# Altium integrated library Capacitor - Aluminium TH.IntLib: 4591 symbols (part 46 of 68)
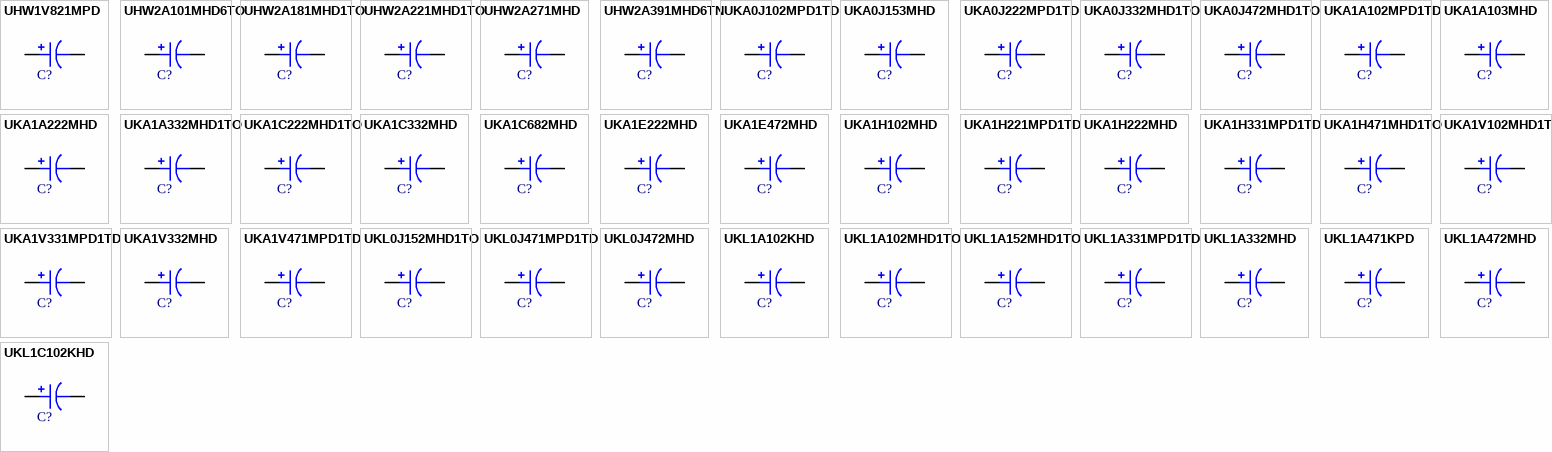
[diagram p159: symbols UHW1V821MPD to UKL1C102KHD]

## UKA1A103MHD
designator C?, comment 10000uF  (value not drawn)
CAP ALUM 10000UF 20% 10V RADIAL; Part Number: UKA1A103MHD; Manufacturer: Nichicon; TemperatureRange: -55C ~ 105C; Type: Polar; Ripple Current: 1.89A @ 120Hz; Value: 10000uF; PartId: 27427; Supplier 1: Digi-Key; Supplier Part Number 1: 493-4599-ND; ComponentLink1Description: Datasheet; ComponentLink1URL: http://nichicon-us.com/english/products/pdfs/e-uka.pdf; ComponentLink2Description: Digi-Key Listing; ComponentLink2URL: https://www.digikey.com/product-detail/en/nichicon/UKA1A103MHD/493-4599-ND/2786974; Tolerance: 20%; Voltage: 10V; Price: 2.86; Device Package: Radial, Can, 16mm
footprint CAP AL TH D16 L7.5 H37
pins: 1, 2

## UKA1A222MHD
designator C?, comment 2200uF  (value not drawn)
CAP ALUM 2200UF 20% 10V RADIAL; Part Number: UKA1A222MHD; Manufacturer: Nichicon; TemperatureRange: -55C ~ 105C; Type: Polar; Ripple Current: 810mA @ 120Hz; Value: 2200uF; PartId: 23036; Supplier 1: Digi-Key; Supplier Part Number 1: 493-4601-ND; ComponentLink1Description: Datasheet; ComponentLink1URL: http://nichicon-us.com/english/products/pdfs/e-uka.pdf; ComponentLink2Description: Digi-Key Listing; ComponentLink2URL: https://www.digikey.com/product-detail/en/nichicon/UKA1A222MHD/493-4601-ND/2786976; Tolerance: 20%; Voltage: 10V; Price: 0; Device Package: Radial, Can, 12.5mm
footprint CAP AL TH D12.5 L5 H21.5
pins: 1, 2

## UKA1A332MHD1TO
designator C?, comment 3300uF  (value not drawn)
CAP ALUM 3300UF 20% 10V RADIAL; Part Number: UKA1A332MHD1TO; Manufacturer: Nichicon; TemperatureRange: -55C ~ 105C; Type: Polar; Ripple Current: 1.05A @ 120Hz; Value: 3300uF; PartId: 23644; Supplier 1: Digi-Key; Supplier Part Number 1: 493-4635-3-ND; ComponentLink1Description: Datasheet; ComponentLink1URL: http://nichicon-us.com/english/products/pdfs/e-uka.pdf; ComponentLink2Description: Digi-Key Listing; ComponentLink2URL: https://www.digikey.com/product-detail/en/nichicon/UKA1A332MHD1TO/493-4635-3-ND/2787010; Tolerance: 20%; Voltage: 10V; Price: 0.6925; Device Package: Radial, Can, 12.5mm
footprint CAP AL TH D12.5 L5 H26.5
pins: 1, 2

## UKA1C222MHD1TO
designator C?, comment 2200uF  (value not drawn)
CAP ALUM 2200UF 20% 16V RADIAL; Part Number: UKA1C222MHD1TO; Manufacturer: Nichicon; TemperatureRange: -55C ~ 105C; Type: Polar; Ripple Current: 920mA @ 120Hz; Value: 2200uF; PartId: 23051; Supplier 1: Digi-Key; Supplier Part Number 1: 493-4642-1-ND; ComponentLink1Description: Datasheet; ComponentLink1URL: http://nichicon-us.com/english/products/pdfs/e-uka.pdf; ComponentLink2Description: Digi-Key Listing; ComponentLink2URL: https://www.digikey.com/product-detail/en/nichicon/UKA1C222MHD1TO/493-4642-1-ND/2787069; Tolerance: 20%; Voltage: 16V; Price: 0; Device Package: Radial, Can, 12.5mm
footprint CAP AL TH D12.5 L5 H21.5
pins: 1, 2

## UKA1C332MHD
designator C?, comment 3300uF  (value not drawn)
CAP ALUM 3300UF 20% 16V RADIAL; Part Number: UKA1C332MHD; Manufacturer: Nichicon; TemperatureRange: -55C ~ 105C; Type: Polar; Ripple Current: 1.27A @ 120Hz; Value: 3300uF; PartId: 24393; Supplier 1: Digi-Key; Supplier Part Number 1: 493-4605-ND; ComponentLink1Description: Datasheet; ComponentLink1URL: http://nichicon-us.com/english/products/pdfs/e-uka.pdf; ComponentLink2Description: Digi-Key Listing; ComponentLink2URL: https://www.digikey.com/product-detail/en/nichicon/UKA1C332MHD/493-4605-ND/2786980; Tolerance: 20%; Voltage: 16V; Price: 1.81; Device Package: Radial, Can, 12.5mm
footprint CAP AL TH D12.5 L5 H35.5
pins: 1, 2

## UKA1C682MHD
designator C?, comment 6800uF  (value not drawn)
CAP ALUM 6800UF 20% 16V RADIAL; Part Number: UKA1C682MHD; Manufacturer: Nichicon; TemperatureRange: -55C ~ 105C; Type: Polar; Ripple Current: 1.78A @ 120Hz; Value: 6800uF; PartId: 27253; Supplier 1: Digi-Key; Supplier Part Number 1: 493-4607-ND; ComponentLink1Description: Datasheet; ComponentLink1URL: http://nichicon-us.com/english/products/pdfs/e-uka.pdf; ComponentLink2Description: Digi-Key Listing; ComponentLink2URL: https://www.digikey.com/product-detail/en/nichicon/UKA1C682MHD/493-4607-ND/2786982; Tolerance: 20%; Voltage: 16V; Price: 2.68; Device Package: Radial, Can, 16mm
footprint CAP AL TH D16 L7.5 H33.5
pins: 1, 2

## UKA1E222MHD
designator C?, comment 2200uF  (value not drawn)
CAP ALUM 2200UF 20% 25V RADIAL; Part Number: UKA1E222MHD; Manufacturer: Nichicon; TemperatureRange: -55C ~ 105C; Type: Polar; Ripple Current: 1.2A @ 120Hz; Value: 2200uF; PartId: 24392; Supplier 1: Digi-Key; Supplier Part Number 1: 493-4608-ND; ComponentLink1Description: Datasheet; ComponentLink1URL: http://nichicon-us.com/english/products/pdfs/e-uka.pdf; ComponentLink2Description: Digi-Key Listing; ComponentLink2URL: https://www.digikey.com/product-detail/en/nichicon/UKA1E222MHD/493-4608-ND/2786983; Tolerance: 20%; Voltage: 25V; Price: 1.81; Device Package: Radial, Can, 12.5mm
footprint CAP AL TH D12.5 L5 H35.5
pins: 1, 2

## UKA1E472MHD
designator C?, comment 4700uF  (value not drawn)
CAP ALUM 4700UF 20% 25V RADIAL; Part Number: UKA1E472MHD; Manufacturer: Nichicon; TemperatureRange: -55C ~ 105C; Type: Polar; Ripple Current: 1.71A @ 120Hz; Value: 4700uF; PartId: 27215; Supplier 1: Digi-Key; Supplier Part Number 1: 493-4610-ND; ComponentLink1Description: Datasheet; ComponentLink1URL: http://nichicon-us.com/english/products/pdfs/e-uka.pdf; ComponentLink2Description: Digi-Key Listing; ComponentLink2URL: https://www.digikey.com/product-detail/en/nichicon/UKA1E472MHD/493-4610-ND/2786985; Tolerance: 20%; Voltage: 25V; Price: 2.3; Device Package: Radial, Can, 16mm
footprint CAP AL TH D16 L7.5 H33.5
pins: 1, 2

## UKA1H102MHD
designator C?, comment 1000uF  (value not drawn)
CAP ALUM 1000UF 20% 50V RADIAL; Part Number: UKA1H102MHD; Manufacturer: Nichicon; TemperatureRange: -55C ~ 105C; Type: Polar; Ripple Current: 1.04A @ 120Hz; Value: 1000uF; PartId: 24394; Supplier 1: Digi-Key; Supplier Part Number 1: 493-4612-ND; ComponentLink1Description: Datasheet; ComponentLink1URL: http://nichicon-us.com/english/products/pdfs/e-uka.pdf; ComponentLink2Description: Digi-Key Listing; ComponentLink2URL: https://www.digikey.com/product-detail/en/nichicon/UKA1H102MHD/493-4612-ND/2786987; Tolerance: 20%; Voltage: 50V; Price: 1.81; Device Package: Radial, Can, 12.5mm
footprint CAP AL TH D12.5 L5 H35.5
pins: 1, 2

## UKA1H221MPD1TD
designator C?, comment 220uF  (value not drawn)
CAP ALUM 220UF 20% 50V RADIAL; Part Number: UKA1H221MPD1TD; Manufacturer: Nichicon; TemperatureRange: -55C ~ 105C; Type: Polar; Ripple Current: 300mA @ 120Hz; Value: 220uF; PartId: 24688; Supplier 1: Digi-Key; Supplier Part Number 1: 493-4657-3-ND; ComponentLink1Description: Datasheet; ComponentLink1URL: http://nichicon-us.com/english/products/pdfs/e-uka.pdf; ComponentLink2Description: Digi-Key Listing; ComponentLink2URL: https://www.digikey.com/product-detail/en/nichicon/UKA1H221MPD1TD/493-4657-3-ND/2787032; Tolerance: 20%; Voltage: 50V; Price: 0.3447; Device Package: Radial, Can, 10mm
footprint CAP AL TH D10 L5 H14.5
pins: 1, 2

## UKA1H222MHD
designator C?, comment 2200uF  (value not drawn)
CAP ALUM 2200UF 20% 50V RADIAL; Part Number: UKA1H222MHD; Manufacturer: Nichicon; TemperatureRange: -55C ~ 105C; Type: Polar; Ripple Current: 1.47A @ 120Hz; Value: 2200uF; PartId: 27423; Supplier 1: Digi-Key; Supplier Part Number 1: 493-4613-ND; ComponentLink1Description: Datasheet; ComponentLink1URL: http://nichicon-us.com/english/products/pdfs/e-uka.pdf; ComponentLink2Description: Digi-Key Listing; ComponentLink2URL: https://www.digikey.com/product-detail/en/nichicon/UKA1H222MHD/493-4613-ND/2786988; Tolerance: 20%; Voltage: 50V; Price: 2.75; Device Package: Radial, Can, 16mm
footprint CAP AL TH D16 L7.5 H37
pins: 1, 2

## UKA1H331MPD1TD
designator C?, comment 330uF  (value not drawn)
CAP ALUM 330UF 20% 50V RADIAL; Part Number: UKA1H331MPD1TD; Manufacturer: Nichicon; TemperatureRange: -55C ~ 105C; Type: Polar; Ripple Current: 410mA @ 120Hz; Value: 330uF; PartId: 25169; Supplier 1: Digi-Key; Supplier Part Number 1: 493-4659-3-ND; ComponentLink1Description: Datasheet; ComponentLink1URL: http://nichicon-us.com/english/products/pdfs/e-uka.pdf; ComponentLink2Description: Digi-Key Listing; ComponentLink2URL: https://www.digikey.com/product-detail/en/nichicon/UKA1H331MPD1TD/493-4659-3-ND/2787034; Tolerance: 20%; Voltage: 50V; Price: 0.4458; Device Package: Radial, Can, 10mm
footprint CAP AL TH D10 L5 H17.5
pins: 1, 2

## UKA1H471MHD1TO
designator C?, comment 470uF  (value not drawn)
CAP ALUM 470UF 20% 50V RADIAL; Part Number: UKA1H471MHD1TO; Manufacturer: Nichicon; TemperatureRange: -55C ~ 105C; Type: Polar; Ripple Current: 530mA @ 120Hz; Value: 470uF; PartId: 23054; Supplier 1: Digi-Key; Supplier Part Number 1: 493-4661-1-ND; ComponentLink1Description: Datasheet; ComponentLink1URL: http://nichicon-us.com/english/products/pdfs/e-uka.pdf; ComponentLink2Description: Digi-Key Listing; ComponentLink2URL: https://www.digikey.com/product-detail/en/nichicon/UKA1H471MHD1TO/493-4661-1-ND/2787088; Tolerance: 20%; Voltage: 50V; Price: 0; Device Package: Radial, Can, 12.5mm
footprint CAP AL TH D12.5 L5 H21.5
pins: 1, 2

## UKA1V102MHD1TO
designator C?, comment 1000uF  (value not drawn)
CAP ALUM 1000UF 20% 35V RADIAL; Part Number: UKA1V102MHD1TO; Manufacturer: Nichicon; TemperatureRange: -55C ~ 105C; Type: Polar; Ripple Current: 860mA @ 120Hz; Value: 1000uF; PartId: 23642; Supplier 1: Digi-Key; Supplier Part Number 1: 493-4663-3-ND; ComponentLink1Description: Datasheet; ComponentLink1URL: http://nichicon-us.com/english/products/pdfs/e-uka.pdf; ComponentLink2Description: Digi-Key Listing; ComponentLink2URL: https://www.digikey.com/product-detail/en/nichicon/UKA1V102MHD1TO/493-4663-3-ND/2787038; Tolerance: 20%; Voltage: 35V; Price: 0.6925; Device Package: Radial, Can, 12.5mm
footprint CAP AL TH D12.5 L5 H26.5
pins: 1, 2

## UKA1V331MPD1TD
designator C?, comment 330uF  (value not drawn)
CAP ALUM 330UF 20% 35V RADIAL; Part Number: UKA1V331MPD1TD; Manufacturer: Nichicon; TemperatureRange: -55C ~ 105C; Type: Polar; Ripple Current: 350mA @ 120Hz; Value: 330uF; PartId: 24687; Supplier 1: Digi-Key; Supplier Part Number 1: 493-4667-3-ND; ComponentLink1Description: Datasheet; ComponentLink1URL: http://nichicon-us.com/english/products/pdfs/e-uka.pdf; ComponentLink2Description: Digi-Key Listing; ComponentLink2URL: https://www.digikey.com/product-detail/en/nichicon/UKA1V331MPD1TD/493-4667-3-ND/2787042; Tolerance: 20%; Voltage: 35V; Price: 0.3447; Device Package: Radial, Can, 10mm
footprint CAP AL TH D10 L5 H14.5
pins: 1, 2

## UKA1V332MHD
designator C?, comment 3300uF  (value not drawn)
CAP ALUM 3300UF 20% 35V RADIAL; Part Number: UKA1V332MHD; Manufacturer: Nichicon; TemperatureRange: -55C ~ 105C; Type: Polar; Ripple Current: 1.61A @ 120Hz; Value: 3300uF; PartId: 27422; Supplier 1: Digi-Key; Supplier Part Number 1: 493-4616-ND; ComponentLink1Description: Datasheet; ComponentLink1URL: http://nichicon-us.com/english/products/pdfs/e-uka.pdf; ComponentLink2Description: Digi-Key Listing; ComponentLink2URL: https://www.digikey.com/product-detail/en/nichicon/UKA1V332MHD/493-4616-ND/2786991; Tolerance: 20%; Voltage: 35V; Price: 2.72; Device Package: Radial, Can, 16mm
footprint CAP AL TH D16 L7.5 H37
pins: 1, 2

## UKA1V471MPD1TD
designator C?, comment 470uF  (value not drawn)
CAP ALUM 470UF 20% 35V RADIAL; Part Number: UKA1V471MPD1TD; Manufacturer: Nichicon; TemperatureRange: -55C ~ 105C; Type: Polar; Ripple Current: 460mA @ 120Hz; Value: 470uF; PartId: 25168; Supplier 1: Digi-Key; Supplier Part Number 1: 493-4669-3-ND; ComponentLink1Description: Datasheet; ComponentLink1URL: http://nichicon-us.com/english/products/pdfs/e-uka.pdf; ComponentLink2Description: Digi-Key Listing; ComponentLink2URL: https://www.digikey.com/product-detail/en/nichicon/UKA1V471MPD1TD/493-4669-3-ND/2787044; Tolerance: 20%; Voltage: 35V; Price: 0.4458; Device Package: Radial, Can, 10mm
footprint CAP AL TH D10 L5 H17.5
pins: 1, 2

## UKL0J152MHD1TO
designator C?, comment 1500uF  (value not drawn)
CAP ALUM 1500UF 20% 6.3V RADIAL; Part Number: UKL0J152MHD1TO; Manufacturer: Nichicon; TemperatureRange: -40C ~ 85C; Type: Polar; Ripple Current: 910mA @ 120Hz; Value: 1500uF; PartId: 23914; Supplier 1: Digi-Key; Supplier Part Number 1: 493-10556-1-ND; ComponentLink1Description: Datasheet; ComponentLink1URL: http://nichicon-us.com/english/products/pdfs/e-ukl.pdf; ComponentLink2Description: Digi-Key Listing; ComponentLink2URL: https://www.digikey.com/product-detail/en/nichicon/UKL0J152MHD1TO/493-10556-1-ND/4317577; Tolerance: 20%; Voltage: 6.3V; Price: 0.92; Device Package: Radial, Can, 12.5mm
footprint CAP AL TH D12.5 L5 H27
pins: 1, 2

## UKL0J471MPD1TD
designator C?, comment 470uF  (value not drawn)
CAP ALUM 470UF 20% 6.3V RADIAL; Part Number: UKL0J471MPD1TD; Manufacturer: Nichicon; TemperatureRange: -40C ~ 85C; Type: Polar; Ripple Current: 390mA @ 120Hz; Value: 470uF; PartId: 24933; Supplier 1: Digi-Key; Supplier Part Number 1: 493-10584-1-ND; ComponentLink1Description: Datasheet; ComponentLink1URL: http://nichicon-us.com/english/products/pdfs/e-ukl.pdf; ComponentLink2Description: Digi-Key Listing; ComponentLink2URL: https://www.digikey.com/product-detail/en/nichicon/UKL0J471MPD1TD/493-10584-1-ND/4317605; Tolerance: 20%; Voltage: 6.3V; Price: 0.5; Device Package: Radial, Can, 10mm
footprint CAP AL TH D10 L5 H14.5
pins: 1, 2

## UKL0J472MHD
designator C?, comment 4700uF  (value not drawn)
CAP ALUM 4700UF 20% 6.3V RADIAL; Part Number: UKL0J472MHD; Manufacturer: Nichicon; TemperatureRange: -40C ~ 85C; Type: Polar; Ripple Current: 1.5A @ 120Hz; Value: 4700uF; PartId: 27071; Supplier 1: Digi-Key; Supplier Part Number 1: 493-10536-ND; ComponentLink1Description: Datasheet; ComponentLink1URL: http://nichicon-us.com/english/products/pdfs/e-ukl.pdf; ComponentLink2Description: Digi-Key Listing; ComponentLink2URL: https://www.digikey.com/product-detail/en/nichicon/UKL0J472MHD/493-10536-ND/2598343; Tolerance: 20%; Voltage: 6.3V; Price: 1.64; Device Package: Radial, Can, 16mm
footprint CAP AL TH D16 L7.5 H33.5
pins: 1, 2

## UKL1A102KHD
designator C?, comment 1000uF  (value not drawn)
CAP ALUM 1000UF 10% 10V RADIAL; Part Number: UKL1A102KHD; Manufacturer: Nichicon; TemperatureRange: -40C ~ 85C; Type: Polar; Ripple Current: 810mA @ 120Hz; Value: 1000uF; PartId: 22957; Supplier 1: Digi-Key; Supplier Part Number 1: 493-14477-ND; ComponentLink1Description: Datasheet; ComponentLink1URL: http://nichicon-us.com/english/products/pdfs/e-ukl.pdf; ComponentLink2Description: Digi-Key Listing; ComponentLink2URL: https://www.digikey.com/product-detail/en/nichicon/UKL1A102KHD/493-14477-ND/2598350; Tolerance: 10%; Voltage: 10V; Price: 0; Device Package: Radial, Can, 12.5mm
footprint CAP AL TH D12.5 L5 H21.5
pins: 1, 2

## UKL1A102MHD1TO
designator C?, comment 1000uF  (value not drawn)
CAP ALUM 1000UF 20% 10V RADIAL; Part Number: UKL1A102MHD1TO; Manufacturer: Nichicon; TemperatureRange: -40C ~ 85C; Type: Polar; Ripple Current: 810mA @ 120Hz; Value: 1000uF; PartId: 23262; Supplier 1: Digi-Key; Supplier Part Number 1: 493-10567-1-ND; ComponentLink1Description: Datasheet; ComponentLink1URL: http://nichicon-us.com/english/products/pdfs/e-ukl.pdf; ComponentLink2Description: Digi-Key Listing; ComponentLink2URL: https://www.digikey.com/product-detail/en/nichicon/UKL1A102MHD1TO/493-10567-1-ND/4317588; Tolerance: 20%; Voltage: 10V; Price: 0.73; Device Package: Radial, Can, 12.5mm
footprint CAP AL TH D12.5 L5 H22
pins: 1, 2

## UKL1A152MHD1TO
designator C?, comment 1500uF  (value not drawn)
CAP ALUM 1500UF 20% 10V RADIAL; Part Number: UKL1A152MHD1TO; Manufacturer: Nichicon; TemperatureRange: -40C ~ 85C; Type: Polar; Ripple Current: 1.02A @ 120Hz; Value: 1500uF; PartId: 23915; Supplier 1: Digi-Key; Supplier Part Number 1: 493-10558-1-ND; ComponentLink1Description: Datasheet; ComponentLink1URL: http://nichicon-us.com/english/products/pdfs/e-ukl.pdf; ComponentLink2Description: Digi-Key Listing; ComponentLink2URL: https://www.digikey.com/product-detail/en/nichicon/UKL1A152MHD1TO/493-10558-1-ND/4317579; Tolerance: 20%; Voltage: 10V; Price: 0.92; Device Package: Radial, Can, 12.5mm
footprint CAP AL TH D12.5 L5 H27
pins: 1, 2

## UKL1A331MPD1TD
designator C?, comment 330uF  (value not drawn)
CAP ALUM 330UF 20% 10V RADIAL; Part Number: UKL1A331MPD1TD; Manufacturer: Nichicon; TemperatureRange: -40C ~ 85C; Type: Polar; Ripple Current: 400mA @ 120Hz; Value: 330uF; PartId: 24567; Supplier 1: Digi-Key; Supplier Part Number 1: 493-10474-3-ND; ComponentLink1Description: Datasheet; ComponentLink1URL: http://nichicon-us.com/english/products/pdfs/e-ukl.pdf; ComponentLink2Description: Digi-Key Listing; ComponentLink2URL: https://www.digikey.com/product-detail/en/nichicon/UKL1A331MPD1TD/493-10474-3-ND/4317963; Tolerance: 20%; Voltage: 10V; Price: 0.1546; Device Package: Radial, Can, 10mm
footprint CAP AL TH D10 L5 H14.5
pins: 1, 2

## UKL1A332MHD
designator C?, comment 3300uF  (value not drawn)
CAP ALUM 3300UF 20% 10V RADIAL; Part Number: UKL1A332MHD; Manufacturer: Nichicon; TemperatureRange: -40C ~ 85C; Type: Polar; Ripple Current: 1.42A @ 120Hz; Value: 3300uF; PartId: 27002; Supplier 1: Digi-Key; Supplier Part Number 1: 493-10537-ND; ComponentLink1Description: Datasheet; ComponentLink1URL: http://nichicon-us.com/english/products/pdfs/e-ukl.pdf; ComponentLink2Description: Digi-Key Listing; ComponentLink2URL: https://www.digikey.com/product-detail/en/nichicon/UKL1A332MHD/493-10537-ND/2598364; Tolerance: 20%; Voltage: 10V; Price: 1.35; Device Package: Radial, Can, 16mm
footprint CAP AL TH D16 L7.5 H33.5
pins: 1, 2

## UKL1A471KPD
designator C?, comment 470uF  (value not drawn)
CAP ALUM 470UF 10% 10V RADIAL; Part Number: UKL1A471KPD; Manufacturer: Nichicon; TemperatureRange: -40C ~ 85C; Type: Polar; Ripple Current: 530mA @ 120Hz; Value: 470uF; PartId: 25299; Supplier 1: Digi-Key; Supplier Part Number 1: 493-14478-ND; ComponentLink1Description: Datasheet; ComponentLink1URL: http://nichicon-us.com/english/products/pdfs/e-ukl.pdf; ComponentLink2Description: Digi-Key Listing; ComponentLink2URL: https://www.digikey.com/product-detail/en/nichicon/UKL1A471KPD/493-14478-ND/2598367; Tolerance: 10%; Voltage: 10V; Price: 0.63; Device Package: Radial, Can, 10mm
footprint CAP AL TH D10 L5 H17.5
pins: 1, 2

## UKL1A472MHD
designator C?, comment 4700uF  (value not drawn)
CAP ALUM 4700UF 20% 10V RADIAL; Part Number: UKL1A472MHD; Manufacturer: Nichicon; TemperatureRange: -40C ~ 85C; Type: Polar; Ripple Current: 1.65A @ 120Hz; Value: 4700uF; PartId: 27413; Supplier 1: Digi-Key; Supplier Part Number 1: 493-10530-ND; ComponentLink1Description: Datasheet; ComponentLink1URL: http://nichicon-us.com/english/products/pdfs/e-ukl.pdf; ComponentLink2Description: Digi-Key Listing; ComponentLink2URL: https://www.digikey.com/product-detail/en/nichicon/UKL1A472MHD/493-10530-ND/2598370; Tolerance: 20%; Voltage: 10V; Price: 2.49; Device Package: Radial, Can, 16mm
footprint CAP AL TH D16 L7.5 H37
pins: 1, 2

## UKL1C102KHD
designator C?, comment 1000uF  (value not drawn)
CAP ALUM 1000UF 10% 16V RADIAL; Part Number: UKL1C102KHD; Manufacturer: Nichicon; TemperatureRange: -40C ~ 85C; Type: Polar; Ripple Current: 910mA @ 120Hz; Value: 1000uF; PartId: 23657; Supplier 1: Digi-Key; Supplier Part Number 1: 493-13397-ND; ComponentLink1Description: Datasheet; ComponentLink1URL: http://nichicon-us.com/english/products/pdfs/e-ukl.pdf; ComponentLink2Description: Digi-Key Listing; ComponentLink2URL: https://www.digikey.com/product-detail/en/nichicon/UKL1C102KHD/493-13397-ND/2598381; Tolerance: 10%; Voltage: 16V; Price: 0.91; Device Package: Radial, Can, 12.5mm
footprint CAP AL TH D12.5 L5 H26.5
pins: 1, 2

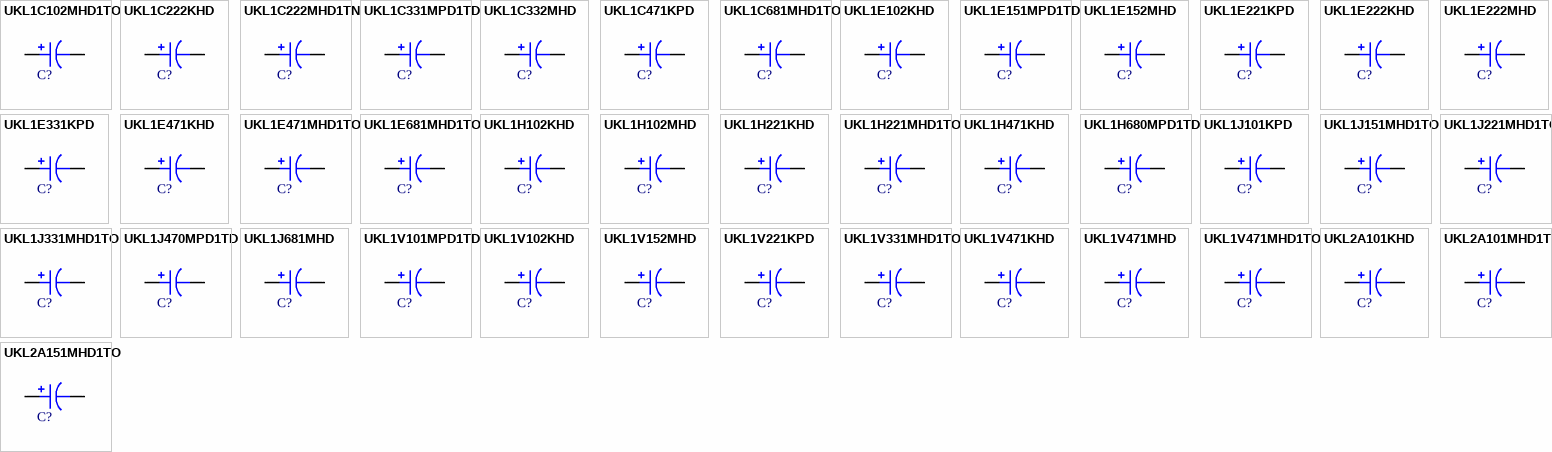
[diagram p76: symbols UKL1C102MHD1TO to UKL2A151MHD1TO]

## UKL1C102MHD1TO
designator C?, comment 1000uF  (value not drawn)
CAP ALUM 1000UF 20% 16V RADIAL; Part Number: UKL1C102MHD1TO; Manufacturer: Nichicon; TemperatureRange: -40C ~ 85C; Type: Polar; Ripple Current: 910mA @ 120Hz; Value: 1000uF; PartId: 23916; Supplier 1: Digi-Key; Supplier Part Number 1: 493-10559-1-ND; ComponentLink1Description: Datasheet; ComponentLink1URL: http://nichicon-us.com/english/products/pdfs/e-ukl.pdf; ComponentLink2Description: Digi-Key Listing; ComponentLink2URL: https://www.digikey.com/product-detail/en/nichicon/UKL1C102MHD1TO/493-10559-1-ND/4317580; Tolerance: 20%; Voltage: 16V; Price: 0.92; Device Package: Radial, Can, 12.5mm
footprint CAP AL TH D12.5 L5 H27
pins: 1, 2

## UKL1C222KHD
designator C?, comment 2200uF  (value not drawn)
CAP ALUM 2200UF 10% 16V RADIAL; Part Number: UKL1C222KHD; Manufacturer: Nichicon; TemperatureRange: -40C ~ 85C; Type: Polar; Ripple Current: 1.3A @ 120Hz; Value: 2200uF; PartId: 26639; Supplier 1: Digi-Key; Supplier Part Number 1: 493-14479-ND; ComponentLink1Description: Datasheet; ComponentLink1URL: http://nichicon-us.com/english/products/pdfs/e-ukl.pdf; ComponentLink2Description: Digi-Key Listing; ComponentLink2URL: https://www.digikey.com/product-detail/en/nichicon/UKL1C222KHD/493-14479-ND/2598393; Tolerance: 10%; Voltage: 16V; Price: 1.49; Device Package: Radial, Can, 16mm
footprint CAP AL TH D16 L7.5 H26.5
pins: 1, 2

## UKL1C222MHD1TN
designator C?, comment 2200uF  (value not drawn)
CAP ALUM 2200UF 20% 16V RADIAL; Part Number: UKL1C222MHD1TN; Manufacturer: Nichicon; TemperatureRange: -40C ~ 85C; Type: Polar; Ripple Current: 1.3A @ 120Hz; Value: 2200uF; PartId: 26778; Supplier 1: Digi-Key; Supplier Part Number 1: 493-10540-3-ND; ComponentLink1Description: Datasheet; ComponentLink1URL: http://nichicon-us.com/english/products/pdfs/e-ukl.pdf; ComponentLink2Description: Digi-Key Listing; ComponentLink2URL: https://www.digikey.com/product-detail/en/nichicon/UKL1C222MHD1TN/493-10540-3-ND/4317163; Tolerance: 20%; Voltage: 16V; Price: 0.6352; Device Package: Radial, Can, 16mm
footprint CAP AL TH D16 L7.5 H27
pins: 1, 2

## UKL1C331MPD1TD
designator C?, comment 330uF  (value not drawn)
CAP ALUM 330UF 20% 16V RADIAL; Part Number: UKL1C331MPD1TD; Manufacturer: Nichicon; TemperatureRange: -40C ~ 85C; Type: Polar; Ripple Current: 420mA @ 120Hz; Value: 330uF; PartId: 25083; Supplier 1: Digi-Key; Supplier Part Number 1: 493-10484-3-ND; ComponentLink1Description: Datasheet; ComponentLink1URL: http://nichicon-us.com/english/products/pdfs/e-ukl.pdf; ComponentLink2Description: Digi-Key Listing; ComponentLink2URL: https://www.digikey.com/product-detail/en/nichicon/UKL1C331MPD1TD/493-10484-3-ND/4317973; Tolerance: 20%; Voltage: 16V; Price: 0.2402; Device Package: Radial, Can, 10mm
footprint CAP AL TH D10 L5 H17.5
pins: 1, 2

## UKL1C332MHD
designator C?, comment 3300uF  (value not drawn)
CAP ALUM 3300UF 20% 16V RADIAL; Part Number: UKL1C332MHD; Manufacturer: Nichicon; TemperatureRange: -40C ~ 85C; Type: Polar; Ripple Current: 1.55A @ 120Hz; Value: 3300uF; PartId: 27414; Supplier 1: Digi-Key; Supplier Part Number 1: 493-10531-ND; ComponentLink1Description: Datasheet; ComponentLink1URL: http://nichicon-us.com/english/products/pdfs/e-ukl.pdf; ComponentLink2Description: Digi-Key Listing; ComponentLink2URL: https://www.digikey.com/product-detail/en/nichicon/UKL1C332MHD/493-10531-ND/2598400; Tolerance: 20%; Voltage: 16V; Price: 2.49; Device Package: Radial, Can, 16mm
footprint CAP AL TH D16 L7.5 H37
pins: 1, 2

## UKL1C471KPD
designator C?, comment 470uF  (value not drawn)
CAP ALUM 470UF 10% 16V RADIAL; Part Number: UKL1C471KPD; Manufacturer: Nichicon; TemperatureRange: -40C ~ 85C; Type: Polar; Ripple Current: 550mA @ 120Hz; Value: 470uF; PartId: 25619; Supplier 1: Digi-Key; Supplier Part Number 1: 493-14481-ND; ComponentLink1Description: Datasheet; ComponentLink1URL: http://nichicon-us.com/english/products/pdfs/e-ukl.pdf; ComponentLink2Description: Digi-Key Listing; ComponentLink2URL: https://www.digikey.com/product-detail/en/nichicon/UKL1C471KPD/493-14481-ND/2598402; Tolerance: 10%; Voltage: 16V; Price: 0.7; Device Package: Radial, Can, 10mm
footprint CAP AL TH D10 L5 H22
pins: 1, 2

## UKL1C681MHD1TO
designator C?, comment 680uF  (value not drawn)
CAP ALUM 680UF 20% 16V RADIAL; Part Number: UKL1C681MHD1TO; Manufacturer: Nichicon; TemperatureRange: -40C ~ 85C; Type: Polar; Ripple Current: 730mA @ 120Hz; Value: 680uF; PartId: 23260; Supplier 1: Digi-Key; Supplier Part Number 1: 493-10568-1-ND; ComponentLink1Description: Datasheet; ComponentLink1URL: http://nichicon-us.com/english/products/pdfs/e-ukl.pdf; ComponentLink2Description: Digi-Key Listing; ComponentLink2URL: https://www.digikey.com/product-detail/en/nichicon/UKL1C681MHD1TO/493-10568-1-ND/4317589; Tolerance: 20%; Voltage: 16V; Price: 0.73; Device Package: Radial, Can, 12.5mm
footprint CAP AL TH D12.5 L5 H22
pins: 1, 2

## UKL1E102KHD
designator C?, comment 1000uF  (value not drawn)
CAP ALUM 1000UF 10% 25V RADIAL; Part Number: UKL1E102KHD; Manufacturer: Nichicon; TemperatureRange: -40C ~ 85C; Type: Polar; Ripple Current: 1.01A @ 120Hz; Value: 1000uF; PartId: 26558; Supplier 1: Digi-Key; Supplier Part Number 1: 493-13399-ND; ComponentLink1Description: Datasheet; ComponentLink1URL: http://nichicon-us.com/english/products/pdfs/e-ukl.pdf; ComponentLink2Description: Digi-Key Listing; ComponentLink2URL: https://www.digikey.com/product-detail/en/nichicon/UKL1E102KHD/493-13399-ND/2598413; Tolerance: 10%; Voltage: 25V; Price: 1.09; Device Package: Radial, Can, 16mm
footprint CAP AL TH D16 L7.5 H26.5
pins: 1, 2

## UKL1E151MPD1TD
designator C?, comment 150uF  (value not drawn)
CAP ALUM 150UF 20% 25V RADIAL; Part Number: UKL1E151MPD1TD; Manufacturer: Nichicon; TemperatureRange: -40C ~ 85C; Type: Polar; Ripple Current: 370mA @ 120Hz; Value: 150uF; PartId: 24936; Supplier 1: Digi-Key; Supplier Part Number 1: 493-10490-1-ND; ComponentLink1Description: Datasheet; ComponentLink1URL: http://nichicon-us.com/english/products/pdfs/e-ukl.pdf; ComponentLink2Description: Digi-Key Listing; ComponentLink2URL: https://www.digikey.com/product-detail/en/nichicon/UKL1E151MPD1TD/493-10490-1-ND/4318104; Tolerance: 20%; Voltage: 25V; Price: 0.5; Device Package: Radial, Can, 10mm
footprint CAP AL TH D10 L5 H14.5
pins: 1, 2

## UKL1E152MHD
designator C?, comment 1500uF  (value not drawn)
CAP ALUM 1500UF 20% 25V RADIAL; Part Number: UKL1E152MHD; Manufacturer: Nichicon; TemperatureRange: -40C ~ 85C; Type: Polar; Ripple Current: 1.27A @120Hz; Value: 1500uF; PartId: 26991; Supplier 1: Digi-Key; Supplier Part Number 1: 493-10538-ND; ComponentLink1Description: Datasheet; ComponentLink1URL: http://nichicon-us.com/english/products/pdfs/e-ukl.pdf; ComponentLink2Description: Digi-Key Listing; ComponentLink2URL: https://www.digikey.com/product-detail/en/nichicon/UKL1E152MHD/493-10538-ND/2598420; Tolerance: 20%; Voltage: 25V; Price: 1.28; Device Package: Radial, Can, 16mm
footprint CAP AL TH D16 L7.5 H33.5
pins: 1, 2

## UKL1E221KPD
designator C?, comment 220uF  (value not drawn)
CAP ALUM 220UF 10% 25V RADIAL; Part Number: UKL1E221KPD; Manufacturer: Nichicon; TemperatureRange: -40C ~ 85C; Type: Polar; Ripple Current: 400mA @ 120Hz; Value: 220uF; PartId: 25356; Supplier 1: Digi-Key; Supplier Part Number 1: 493-13400-ND; ComponentLink1Description: Datasheet; ComponentLink1URL: http://nichicon-us.com/english/products/pdfs/e-ukl.pdf; ComponentLink2Description: Digi-Key Listing; ComponentLink2URL: https://www.digikey.com/product-detail/en/nichicon/UKL1E221KPD/493-13400-ND/2598423; Tolerance: 10%; Voltage: 25V; Price: 0.7; Device Package: Radial, Can, 10mm
footprint CAP AL TH D10 L5 H17.5
pins: 1, 2

## UKL1E222KHD
designator C?, comment 2200uF  (value not drawn)
CAP ALUM 2200UF 10% 25V RADIAL; Part Number: UKL1E222KHD; Manufacturer: Nichicon; TemperatureRange: -40C ~ 85C; Type: Polar; Ripple Current: 1.44A @ 120Hz; Value: 2200uF; PartId: 27391; Supplier 1: Digi-Key; Supplier Part Number 1: 493-14483-ND; ComponentLink1Description: Datasheet; ComponentLink1URL: http://nichicon-us.com/english/products/pdfs/e-ukl.pdf; ComponentLink2Description: Digi-Key Listing; ComponentLink2URL: https://www.digikey.com/product-detail/en/nichicon/UKL1E222KHD/493-14483-ND/2598425; Tolerance: 10%; Voltage: 25V; Price: 1.94; Device Package: Radial, Can, 16mm
footprint CAP AL TH D16 L7.5 H37
pins: 1, 2

## UKL1E222MHD
designator C?, comment 2200uF  (value not drawn)
CAP ALUM 2200UF 20% 25V RADIAL; Part Number: UKL1E222MHD; Manufacturer: Nichicon; TemperatureRange: -40C ~ 85C; Type: Polar; Ripple Current: 1.44A @ 120Hz; Value: 2200uF; PartId: 27358; Supplier 1: Digi-Key; Supplier Part Number 1: 493-10532-ND; ComponentLink1Description: Datasheet; ComponentLink1URL: http://nichicon-us.com/english/products/pdfs/e-ukl.pdf; ComponentLink2Description: Digi-Key Listing; ComponentLink2URL: https://www.digikey.com/product-detail/en/nichicon/UKL1E222MHD/493-10532-ND/2598426; Tolerance: 20%; Voltage: 25V; Price: 1.77; Device Package: Radial, Can, 16mm
footprint CAP AL TH D16 L7.5 H37
pins: 1, 2

## UKL1E331KPD
designator C?, comment 330uF  (value not drawn)
CAP ALUM 330UF 10% 25V RADIAL; Part Number: UKL1E331KPD; Manufacturer: Nichicon; TemperatureRange: -40C ~ 85C; Type: Polar; Ripple Current: 490mA @ 120Hz; Value: 330uF; PartId: 25690; Supplier 1: Digi-Key; Supplier Part Number 1: 493-14484-ND; ComponentLink1Description: Datasheet; ComponentLink1URL: http://nichicon-us.com/english/products/pdfs/e-ukl.pdf; ComponentLink2Description: Digi-Key Listing; ComponentLink2URL: https://www.digikey.com/product-detail/en/nichicon/UKL1E331KPD/493-14484-ND/2598429; Tolerance: 10%; Voltage: 25V; Price: 0.81; Device Package: Radial, Can, 10mm
footprint CAP AL TH D10 L5 H22
pins: 1, 2

## UKL1E471KHD
designator C?, comment 470uF  (value not drawn)
CAP ALUM 470UF 10% 25V RADIAL; Part Number: UKL1E471KHD; Manufacturer: Nichicon; TemperatureRange: -40C ~ 85C; Type: Polar; Ripple Current: 660mA @ 120Hz; Value: 470uF; PartId: 22964; Supplier 1: Digi-Key; Supplier Part Number 1: 493-13401-ND; ComponentLink1Description: Datasheet; ComponentLink1URL: http://nichicon-us.com/english/products/pdfs/e-ukl.pdf; ComponentLink2Description: Digi-Key Listing; ComponentLink2URL: https://www.digikey.com/product-detail/en/nichicon/UKL1E471KHD/493-13401-ND/2598435; Tolerance: 10%; Voltage: 25V; Price: 0; Device Package: Radial, Can, 12.5mm
footprint CAP AL TH D12.5 L5 H21.5
pins: 1, 2

## UKL1E471MHD1TO
designator C?, comment 470uF  (value not drawn)
CAP ALUM 470UF 20% 25V RADIAL; Part Number: UKL1E471MHD1TO; Manufacturer: Nichicon; TemperatureRange: -40C ~ 85C; Type: Polar; Ripple Current: 660mA @ 120Hz; Value: 470uF; PartId: 23319; Supplier 1: Digi-Key; Supplier Part Number 1: 493-10561-1-ND; ComponentLink1Description: Datasheet; ComponentLink1URL: http://nichicon-us.com/english/products/pdfs/e-ukl.pdf; ComponentLink2Description: Digi-Key Listing; ComponentLink2URL: https://www.digikey.com/product-detail/en/nichicon/UKL1E471MHD1TO/493-10561-1-ND/4317582; Tolerance: 20%; Voltage: 25V; Price: 0.82; Device Package: Radial, Can, 12.5mm
footprint CAP AL TH D12.5 L5 H22
pins: 1, 2

## UKL1E681MHD1TO
designator C?, comment 680uF  (value not drawn)
CAP ALUM 680UF 20% 25V RADIAL; Part Number: UKL1E681MHD1TO; Manufacturer: Nichicon; TemperatureRange: -40C ~ 85C; Type: Polar; Ripple Current: 810mA @ 120Hz; Value: 680uF; PartId: 23913; Supplier 1: Digi-Key; Supplier Part Number 1: 493-10560-1-ND; ComponentLink1Description: Datasheet; ComponentLink1URL: http://nichicon-us.com/english/products/pdfs/e-ukl.pdf; ComponentLink2Description: Digi-Key Listing; ComponentLink2URL: https://www.digikey.com/product-detail/en/nichicon/UKL1E681MHD1TO/493-10560-1-ND/4317581; Tolerance: 20%; Voltage: 25V; Price: 0.92; Device Package: Radial, Can, 12.5mm
footprint CAP AL TH D12.5 L5 H27
pins: 1, 2

## UKL1H102KHD
designator C?, comment 1000uF  (value not drawn)
CAP ALUM 1000UF 10% 50V RADIAL; Part Number: UKL1H102KHD; Manufacturer: Nichicon; TemperatureRange: -40C ~ 85C; Type: Polar; Ripple Current: 1.14A @ 120Hz; Value: 1000uF; PartId: 27101; Supplier 1: Digi-Key; Supplier Part Number 1: 493-14486-ND; ComponentLink1Description: Datasheet; ComponentLink1URL: http://nichicon-us.com/english/products/pdfs/e-ukl.pdf; ComponentLink2Description: Digi-Key Listing; ComponentLink2URL: https://www.digikey.com/product-detail/en/nichicon/UKL1H102KHD/493-14486-ND/2598451; Tolerance: 10%; Voltage: 50V; Price: 1.74; Device Package: Radial, Can, 16mm
footprint CAP AL TH D16 L7.5 H33.5
pins: 1, 2

## UKL1H102MHD
designator C?, comment 1000uF  (value not drawn)
CAP ALUM 1000UF 20% 50V RADIAL; Part Number: UKL1H102MHD; Manufacturer: Nichicon; TemperatureRange: -40C ~ 85C; Type: Polar; Ripple Current: 1.14A @ 120Hz; Value: 1000uF; PartId: 27128; Supplier 1: Digi-Key; Supplier Part Number 1: 493-10534-ND; ComponentLink1Description: Datasheet; ComponentLink1URL: http://nichicon-us.com/english/products/pdfs/e-ukl.pdf; ComponentLink2Description: Digi-Key Listing; ComponentLink2URL: https://www.digikey.com/product-detail/en/nichicon/UKL1H102MHD/493-10534-ND/2598452; Tolerance: 20%; Voltage: 50V; Price: 1.77; Device Package: Radial, Can, 16mm
footprint CAP AL TH D16 L7.5 H33.5
pins: 1, 2

## UKL1H221KHD
designator C?, comment 220uF  (value not drawn)
CAP ALUM 220UF 10% 50V RADIAL; Part Number: UKL1H221KHD; Manufacturer: Nichicon; TemperatureRange: -40C ~ 85C; Type: Polar; Ripple Current: 490mA @ 120Hz; Value: 220uF; PartId: 22988; Supplier 1: Digi-Key; Supplier Part Number 1: 493-14487-ND; ComponentLink1Description: Datasheet; ComponentLink1URL: http://nichicon-us.com/english/products/pdfs/e-ukl.pdf; ComponentLink2Description: Digi-Key Listing; ComponentLink2URL: https://www.digikey.com/product-detail/en/nichicon/UKL1H221KHD/493-14487-ND/2598463; Tolerance: 10%; Voltage: 50V; Price: 0; Device Package: Radial, Can, 12.5mm
footprint CAP AL TH D12.5 L5 H21.5
pins: 1, 2

## UKL1H221MHD1TO
designator C?, comment 220uF  (value not drawn)
CAP ALUM 220UF 20% 50V RADIAL; Part Number: UKL1H221MHD1TO; Manufacturer: Nichicon; TemperatureRange: -40C ~ 85C; Type: Polar; Ripple Current: 490mA @ 120Hz; Value: 220uF; PartId: 23327; Supplier 1: Digi-Key; Supplier Part Number 1: 493-10562-1-ND; ComponentLink1Description: Datasheet; ComponentLink1URL: http://nichicon-us.com/english/products/pdfs/e-ukl.pdf; ComponentLink2Description: Digi-Key Listing; ComponentLink2URL: https://www.digikey.com/product-detail/en/nichicon/UKL1H221MHD1TO/493-10562-1-ND/4317583; Tolerance: 20%; Voltage: 50V; Price: 0.82; Device Package: Radial, Can, 12.5mm
footprint CAP AL TH D12.5 L5 H22
pins: 1, 2

## UKL1H471KHD
designator C?, comment 470uF  (value not drawn)
CAP ALUM 470UF 10% 50V RADIAL; Part Number: UKL1H471KHD; Manufacturer: Nichicon; TemperatureRange: -40C ~ 85C; Type: Polar; Ripple Current: 760mA @ 120Hz; Value: 470uF; PartId: 26559; Supplier 1: Digi-Key; Supplier Part Number 1: 493-14488-ND; ComponentLink1Description: Datasheet; ComponentLink1URL: http://nichicon-us.com/english/products/pdfs/e-ukl.pdf; ComponentLink2Description: Digi-Key Listing; ComponentLink2URL: https://www.digikey.com/product-detail/en/nichicon/UKL1H471KHD/493-14488-ND/2598475; Tolerance: 10%; Voltage: 50V; Price: 1.09; Device Package: Radial, Can, 16mm
footprint CAP AL TH D16 L7.5 H26.5
pins: 1, 2

## UKL1H680MPD1TD
designator C?, comment 68uF  (value not drawn)
CAP ALUM 68UF 20% 50V RADIAL; Part Number: UKL1H680MPD1TD; Manufacturer: Nichicon; TemperatureRange: -40C ~ 85C; Type: Polar; Ripple Current: 250mA @ 120Hz; Value: 68uF; PartId: 24637; Supplier 1: Digi-Key; Supplier Part Number 1: 493-10508-3-ND; ComponentLink1Description: Datasheet; ComponentLink1URL: http://nichicon-us.com/english/products/pdfs/e-ukl.pdf; ComponentLink2Description: Digi-Key Listing; ComponentLink2URL: https://www.digikey.com/product-detail/en/nichicon/UKL1H680MPD1TD/493-10508-3-ND/4317997; Tolerance: 20%; Voltage: 50V; Price: 0.2402; Device Package: Radial, Can, 10mm
footprint CAP AL TH D10 L5 H14.5
pins: 1, 2

## UKL1J101KPD
designator C?, comment 100uF  (value not drawn)
CAP ALUM 100UF 10% 63V RADIAL; Part Number: UKL1J101KPD; Manufacturer: Nichicon; TemperatureRange: -40C ~ 85C; Type: Polar; Ripple Current: 330mA @ 120Hz; Value: 100uF; PartId: 25689; Supplier 1: Digi-Key; Supplier Part Number 1: 493-13404-ND; ComponentLink1Description: Datasheet; ComponentLink1URL: http://nichicon-us.com/english/products/pdfs/e-ukl.pdf; ComponentLink2Description: Digi-Key Listing; ComponentLink2URL: https://www.digikey.com/product-detail/en/nichicon/UKL1J101KPD/493-13404-ND/2598496; Tolerance: 10%; Voltage: 63V; Price: 0.81; Device Package: Radial, Can, 10mm
footprint CAP AL TH D10 L5 H22
pins: 1, 2

## UKL1J151MHD1TO
designator C?, comment 150uF  (value not drawn)
CAP ALUM 150UF 20% 63V RADIAL; Part Number: UKL1J151MHD1TO; Manufacturer: Nichicon; TemperatureRange: -40C ~ 85C; Type: Polar; Ripple Current: 450mA @ 120Hz; Value: 150uF; PartId: 23320; Supplier 1: Digi-Key; Supplier Part Number 1: 493-10563-1-ND; ComponentLink1Description: Datasheet; ComponentLink1URL: http://nichicon-us.com/english/products/pdfs/e-ukl.pdf; ComponentLink2Description: Digi-Key Listing; ComponentLink2URL: https://www.digikey.com/product-detail/en/nichicon/UKL1J151MHD1TO/493-10563-1-ND/4317584; Tolerance: 20%; Voltage: 63V; Price: 0.82; Device Package: Radial, Can, 12.5mm
footprint CAP AL TH D12.5 L5 H22
pins: 1, 2

## UKL1J221MHD1TO
designator C?, comment 220uF  (value not drawn)
CAP ALUM 220UF 20% 63V RADIAL; Part Number: UKL1J221MHD1TO; Manufacturer: Nichicon; TemperatureRange: -40C ~ 85C; Type: Polar; Ripple Current: 550mA @ 120Hz; Value: 220uF; PartId: 23413; Supplier 1: Digi-Key; Supplier Part Number 1: 493-10555-1-ND; ComponentLink1Description: Datasheet; ComponentLink1URL: http://nichicon-us.com/english/products/pdfs/e-ukl.pdf; ComponentLink2Description: Digi-Key Listing; ComponentLink2URL: https://www.digikey.com/product-detail/en/nichicon/UKL1J221MHD1TO/493-10555-1-ND/4317576; Tolerance: 20%; Voltage: 63V; Price: 0.99; Device Package: Radial, Can, 12.5mm
footprint CAP AL TH D12.5 L5 H22
pins: 1, 2

## UKL1J331MHD1TO
designator C?, comment 330uF  (value not drawn)
CAP ALUM 330UF 20% 63V RADIAL; Part Number: UKL1J331MHD1TO; Manufacturer: Nichicon; TemperatureRange: -40C ~ 85C; Type: Polar; Ripple Current: 710mA @ 120Hz; Value: 330uF; PartId: 24034; Supplier 1: Digi-Key; Supplier Part Number 1: 493-10545-1-ND; ComponentLink1Description: Datasheet; ComponentLink1URL: http://nichicon-us.com/english/products/pdfs/e-ukl.pdf; ComponentLink2Description: Digi-Key Listing; ComponentLink2URL: https://www.digikey.com/product-detail/en/nichicon/UKL1J331MHD1TO/493-10545-1-ND/4317566; Tolerance: 20%; Voltage: 63V; Price: 1.11; Device Package: Radial, Can, 12.5mm
footprint CAP AL TH D12.5 L5 H27
pins: 1, 2

## UKL1J470MPD1TD
designator C?, comment 47uF  (value not drawn)
CAP ALUM 47UF 20% 63V RADIAL; Part Number: UKL1J470MPD1TD; Manufacturer: Nichicon; TemperatureRange: -40C ~ 85C; Type: Polar; Ripple Current: 200mA @ 120Hz; Value: 47uF; PartId: 24565; Supplier 1: Digi-Key; Supplier Part Number 1: 493-10585-3-ND; ComponentLink1Description: Datasheet; ComponentLink1URL: http://nichicon-us.com/english/products/pdfs/e-ukl.pdf; ComponentLink2Description: Digi-Key Listing; ComponentLink2URL: https://www.digikey.com/product-detail/en/nichicon/UKL1J470MPD1TD/493-10585-3-ND/4317208; Tolerance: 20%; Voltage: 63V; Price: 0.1544; Device Package: Radial, Can, 10mm
footprint CAP AL TH D10 L5 H14.5
pins: 1, 2

## UKL1J681MHD
designator C?, comment 680uF  (value not drawn)
CAP ALUM 680UF 20% 63V RADIAL; Part Number: UKL1J681MHD; Manufacturer: Nichicon; TemperatureRange: -40C ~ 85C; Type: Polar; Ripple Current: 1.05A @ 120Hz; Value: 680uF; PartId: 27083; Supplier 1: Digi-Key; Supplier Part Number 1: 493-10535-ND; ComponentLink1Description: Datasheet; ComponentLink1URL: http://nichicon-us.com/english/products/pdfs/e-ukl.pdf; ComponentLink2Description: Digi-Key Listing; ComponentLink2URL: https://www.digikey.com/product-detail/en/nichicon/UKL1J681MHD/493-10535-ND/2598519; Tolerance: 20%; Voltage: 63V; Price: 1.68; Device Package: Radial, Can, 16mm
footprint CAP AL TH D16 L7.5 H33.5
pins: 1, 2

## UKL1V101MPD1TD
designator C?, comment 100uF  (value not drawn)
CAP ALUM 100UF 20% 35V RADIAL; Part Number: UKL1V101MPD1TD; Manufacturer: Nichicon; TemperatureRange: -40C ~ 85C; Type: Polar; Ripple Current: 300mA @ 120Hz; Value: 100uF; PartId: 24566; Supplier 1: Digi-Key; Supplier Part Number 1: 493-10515-3-ND; ComponentLink1Description: Datasheet; ComponentLink1URL: http://nichicon-us.com/english/products/pdfs/e-ukl.pdf; ComponentLink2Description: Digi-Key Listing; ComponentLink2URL: https://www.digikey.com/product-detail/en/nichicon/UKL1V101MPD1TD/493-10515-3-ND/4318004; Tolerance: 20%; Voltage: 35V; Price: 0.1546; Device Package: Radial, Can, 10mm
footprint CAP AL TH D10 L5 H14.5
pins: 1, 2

## UKL1V102KHD
designator C?, comment 1000uF  (value not drawn)
CAP ALUM 1000UF 10% 35V RADIAL; Part Number: UKL1V102KHD; Manufacturer: Nichicon; TemperatureRange: -40C ~ 85C; Type: Polar; Ripple Current: 1.1A @ 120Hz; Value: 1000uF; PartId: 26631; Supplier 1: Digi-Key; Supplier Part Number 1: 493-14494-ND; ComponentLink1Description: Datasheet; ComponentLink1URL: http://nichicon-us.com/english/products/pdfs/e-ukl.pdf; ComponentLink2Description: Digi-Key Listing; ComponentLink2URL: https://www.digikey.com/product-detail/en/nichicon/UKL1V102KHD/493-14494-ND/2598526; Tolerance: 10%; Voltage: 35V; Price: 1.45; Device Package: Radial, Can, 16mm
footprint CAP AL TH D16 L7.5 H26.5
pins: 1, 2

## UKL1V152MHD
designator C?, comment 1500uF  (value not drawn)
CAP ALUM 1500UF 20% 35V RADIAL; Part Number: UKL1V152MHD; Manufacturer: Nichicon; TemperatureRange: -40C ~ 85C; Type: Polar; Ripple Current: 1.39A @ 120Hz; Value: 1500uF; PartId: 27357; Supplier 1: Digi-Key; Supplier Part Number 1: 493-10533-ND; ComponentLink1Description: Datasheet; ComponentLink1URL: http://nichicon-us.com/english/products/pdfs/e-ukl.pdf; ComponentLink2Description: Digi-Key Listing; ComponentLink2URL: https://www.digikey.com/product-detail/en/nichicon/UKL1V152MHD/493-10533-ND/2598533; Tolerance: 20%; Voltage: 35V; Price: 1.77; Device Package: Radial, Can, 16mm
footprint CAP AL TH D16 L7.5 H37
pins: 1, 2

## UKL1V221KPD
designator C?, comment 220uF  (value not drawn)
CAP ALUM 220UF 10% 35V RADIAL; Part Number: UKL1V221KPD; Manufacturer: Nichicon; TemperatureRange: -40C ~ 85C; Type: Polar; Ripple Current: 440mA @ 120Hz; Value: 220uF; PartId: 25691; Supplier 1: Digi-Key; Supplier Part Number 1: 493-14495-ND; ComponentLink1Description: Datasheet; ComponentLink1URL: http://nichicon-us.com/english/products/pdfs/e-ukl.pdf; ComponentLink2Description: Digi-Key Listing; ComponentLink2URL: https://www.digikey.com/product-detail/en/nichicon/UKL1V221KPD/493-14495-ND/2598535; Tolerance: 10%; Voltage: 35V; Price: 0.81; Device Package: Radial, Can, 10mm
footprint CAP AL TH D10 L5 H22
pins: 1, 2

## UKL1V331MHD1TO
designator C?, comment 330uF  (value not drawn)
CAP ALUM 330UF 20% 35V RADIAL; Part Number: UKL1V331MHD1TO; Manufacturer: Nichicon; TemperatureRange: -40C ~ 85C; Type: Polar; Ripple Current: 550mA @ 120Hz; Value: 330uF; PartId: 23322; Supplier 1: Digi-Key; Supplier Part Number 1: 493-10564-1-ND; ComponentLink1Description: Datasheet; ComponentLink1URL: http://nichicon-us.com/english/products/pdfs/e-ukl.pdf; ComponentLink2Description: Digi-Key Listing; ComponentLink2URL: https://www.digikey.com/product-detail/en/nichicon/UKL1V331MHD1TO/493-10564-1-ND/4317585; Tolerance: 20%; Voltage: 35V; Price: 0.82; Device Package: Radial, Can, 12.5mm
footprint CAP AL TH D12.5 L5 H22
pins: 1, 2

## UKL1V471KHD
designator C?, comment 470uF  (value not drawn)
CAP ALUM 470UF 10% 35V RADIAL; Part Number: UKL1V471KHD; Manufacturer: Nichicon; TemperatureRange: -40C ~ 85C; Type: Polar; Ripple Current: 680mA @ 120Hz; Value: 470uF; PartId: 23682; Supplier 1: Digi-Key; Supplier Part Number 1: 493-14497-ND; ComponentLink1Description: Datasheet; ComponentLink1URL: http://nichicon-us.com/english/products/pdfs/e-ukl.pdf; ComponentLink2Description: Digi-Key Listing; ComponentLink2URL: https://www.digikey.com/product-detail/en/nichicon/UKL1V471KHD/493-14497-ND/2598545; Tolerance: 10%; Voltage: 35V; Price: 1.02; Device Package: Radial, Can, 12.5mm
footprint CAP AL TH D12.5 L5 H26.5
pins: 1, 2

## UKL1V471MHD
designator C?, comment 470uF  (value not drawn)
CAP ALUM 470UF 20% 35V RADIAL; Part Number: UKL1V471MHD; Manufacturer: Nichicon; TemperatureRange: -40C ~ 85C; Type: Polar; Ripple Current: 680mA @ 120Hz; Value: 470uF; PartId: 23706; Supplier 1: Digi-Key; Supplier Part Number 1: 493-14367-ND; ComponentLink1Description: Datasheet; ComponentLink1URL: http://nichicon-us.com/english/products/pdfs/e-ukl.pdf; ComponentLink2Description: Digi-Key Listing; ComponentLink2URL: https://www.digikey.com/product-detail/en/nichicon/UKL1V471MHD/493-14367-ND/2598546; Tolerance: 20%; Voltage: 35V; Price: 1.14; Device Package: Radial, Can, 12.5mm
footprint CAP AL TH D12.5 L5 H26.5
pins: 1, 2

## UKL1V471MHD1TO
designator C?, comment 470uF  (value not drawn)
CAP ALUM 470UF 20% 35V RADIAL; Part Number: UKL1V471MHD1TO; Manufacturer: Nichicon; TemperatureRange: -40C ~ 85C; Type: Polar; Ripple Current: 680mA @ 120Hz; Value: 470uF; PartId: 23983; Supplier 1: Digi-Key; Supplier Part Number 1: 493-10546-1-ND; ComponentLink1Description: Datasheet; ComponentLink1URL: http://nichicon-us.com/english/products/pdfs/e-ukl.pdf; ComponentLink2Description: Digi-Key Listing; ComponentLink2URL: https://www.digikey.com/product-detail/en/nichicon/UKL1V471MHD1TO/493-10546-1-ND/4317567; Tolerance: 20%; Voltage: 35V; Price: 1.03; Device Package: Radial, Can, 12.5mm
footprint CAP AL TH D12.5 L5 H27
pins: 1, 2

## UKL2A101KHD
designator C?, comment 100uF  (value not drawn)
CAP ALUM 100UF 10% 100V RADIAL; Part Number: UKL2A101KHD; Manufacturer: Nichicon; TemperatureRange: -40C ~ 85C; Type: Polar; Ripple Current: 370mA @ 120Hz; Value: 100uF; PartId: 22965; Supplier 1: Digi-Key; Supplier Part Number 1: 493-14499-ND; ComponentLink1Description: Datasheet; ComponentLink1URL: http://nichicon-us.com/english/products/pdfs/e-ukl.pdf; ComponentLink2Description: Digi-Key Listing; ComponentLink2URL: https://www.digikey.com/product-detail/en/nichicon/UKL2A101KHD/493-14499-ND/2598558; Tolerance: 10%; Voltage: 100V; Price: 0; Device Package: Radial, Can, 12.5mm
footprint CAP AL TH D12.5 L5 H21.5
pins: 1, 2

## UKL2A101MHD1TO
designator C?, comment 100uF  (value not drawn)
CAP ALUM 100UF 20% 100V RADIAL; Part Number: UKL2A101MHD1TO; Manufacturer: Nichicon; TemperatureRange: -40C ~ 85C; Type: Polar; Ripple Current: 370mA @ 120Hz; Value: 100uF; PartId: 23321; Supplier 1: Digi-Key; Supplier Part Number 1: 493-10565-1-ND; ComponentLink1Description: Datasheet; ComponentLink1URL: http://nichicon-us.com/english/products/pdfs/e-ukl.pdf; ComponentLink2Description: Digi-Key Listing; ComponentLink2URL: https://www.digikey.com/product-detail/en/nichicon/UKL2A101MHD1TO/493-10565-1-ND/4317586; Tolerance: 20%; Voltage: 100V; Price: 0.82; Device Package: Radial, Can, 12.5mm
footprint CAP AL TH D12.5 L5 H22
pins: 1, 2

## UKL2A151MHD1TO
designator C?, comment 150uF  (value not drawn)
CAP ALUM 150UF 20% 100V RADIAL; Part Number: UKL2A151MHD1TO; Manufacturer: Nichicon; TemperatureRange: -40C ~ 85C; Type: Polar; Ripple Current: 470mA @ 120Hz; Value: 150uF; PartId: 23959; Supplier 1: Digi-Key; Supplier Part Number 1: 493-10551-1-ND; ComponentLink1Description: Datasheet; ComponentLink1URL: http://nichicon-us.com/english/products/pdfs/e-ukl.pdf; ComponentLink2Description: Digi-Key Listing; ComponentLink2URL: https://www.digikey.com/product-detail/en/nichicon/UKL2A151MHD1TO/493-10551-1-ND/4317572; Tolerance: 20%; Voltage: 100V; Price: 0.98; Device Package: Radial, Can, 12.5mm
footprint CAP AL TH D12.5 L5 H27
pins: 1, 2

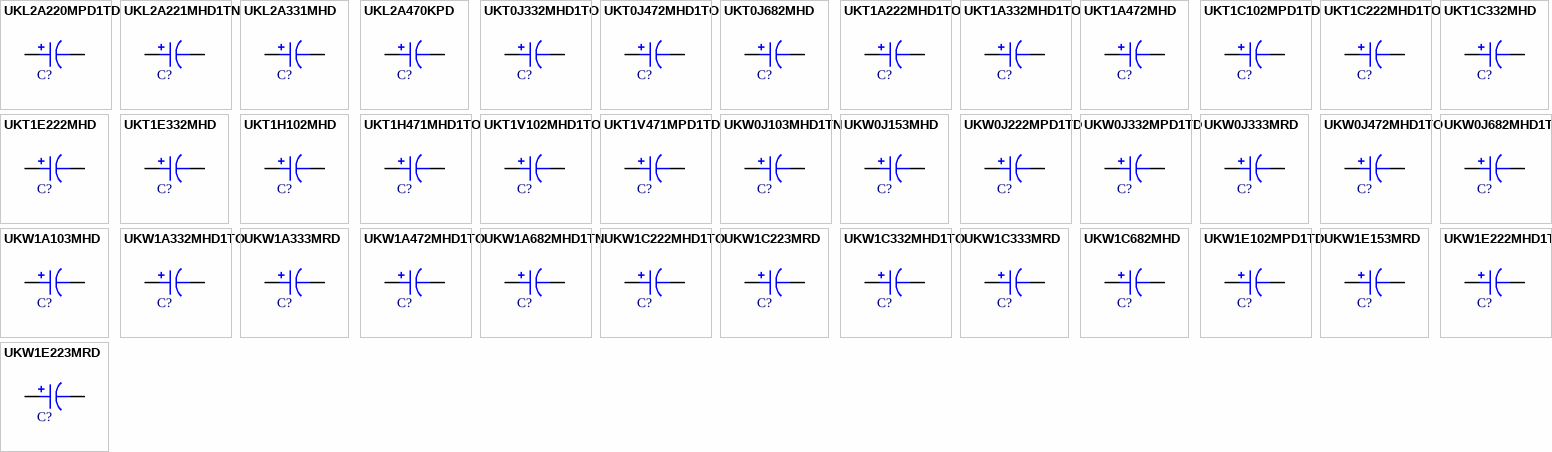
[diagram p77: symbols UKL2A220MPD1TD to UKW1E223MRD]

## UKL2A220MPD1TD
designator C?, comment 22uF  (value not drawn)
CAP ALUM 22UF 20% 100V RADIAL; Part Number: UKL2A220MPD1TD; Manufacturer: Nichicon; TemperatureRange: -40C ~ 85C; Type: Polar; Ripple Current: 136mA @ 120Hz; Value: 22uF; PartId: 24564; Supplier 1: Digi-Key; Supplier Part Number 1: 493-10587-3-ND; ComponentLink1Description: Datasheet; ComponentLink1URL: http://nichicon-us.com/english/products/pdfs/e-ukl.pdf; ComponentLink2Description: Digi-Key Listing; ComponentLink2URL: https://www.digikey.com/product-detail/en/nichicon/UKL2A220MPD1TD/493-10587-3-ND/4317210; Tolerance: 20%; Voltage: 100V; Price: 0.1544; Device Package: Radial, Can, 10mm
footprint CAP AL TH D10 L5 H14.5
pins: 1, 2

## UKL2A221MHD1TN
designator C?, comment 220uF  (value not drawn)
CAP ALUM 220UF 20% 100V RADIAL; Part Number: UKL2A221MHD1TN; Manufacturer: Nichicon; TemperatureRange: -40C ~ 85C; Type: Polar; Ripple Current: 580mA @ 120Hz; Value: 220uF; PartId: 26753; Supplier 1: Digi-Key; Supplier Part Number 1: 493-10544-3-ND; ComponentLink1Description: Datasheet; ComponentLink1URL: http://nichicon-us.com/english/products/pdfs/e-ukl.pdf; ComponentLink2Description: Digi-Key Listing; ComponentLink2URL: https://www.digikey.com/product-detail/en/nichicon/UKL2A221MHD1TN/493-10544-3-ND/4317167; Tolerance: 20%; Voltage: 100V; Price: 0.5572; Device Package: Radial, Can, 16mm
footprint CAP AL TH D16 L7.5 H27
pins: 1, 2

## UKL2A331MHD
designator C?, comment 330uF  (value not drawn)
CAP ALUM 330UF 20% 100V RADIAL; Part Number: UKL2A331MHD; Manufacturer: Nichicon; TemperatureRange: -40C ~ 85C; Type: Polar; Ripple Current: 730mA @ 120Hz; Value: 330uF; PartId: 26985; Supplier 1: Digi-Key; Supplier Part Number 1: 493-10539-ND; ComponentLink1Description: Datasheet; ComponentLink1URL: http://nichicon-us.com/english/products/pdfs/e-ukl.pdf; ComponentLink2Description: Digi-Key Listing; ComponentLink2URL: https://www.digikey.com/product-detail/en/nichicon/UKL2A331MHD/493-10539-ND/2598575; Tolerance: 20%; Voltage: 100V; Price: 1.24; Device Package: Radial, Can, 16mm
footprint CAP AL TH D16 L7.5 H33.5
pins: 1, 2